# Altium integrated library Analog Devices Data Converters Analog-to-Digital Converters.IntLib: 2400 symbols (part 322 of 338)
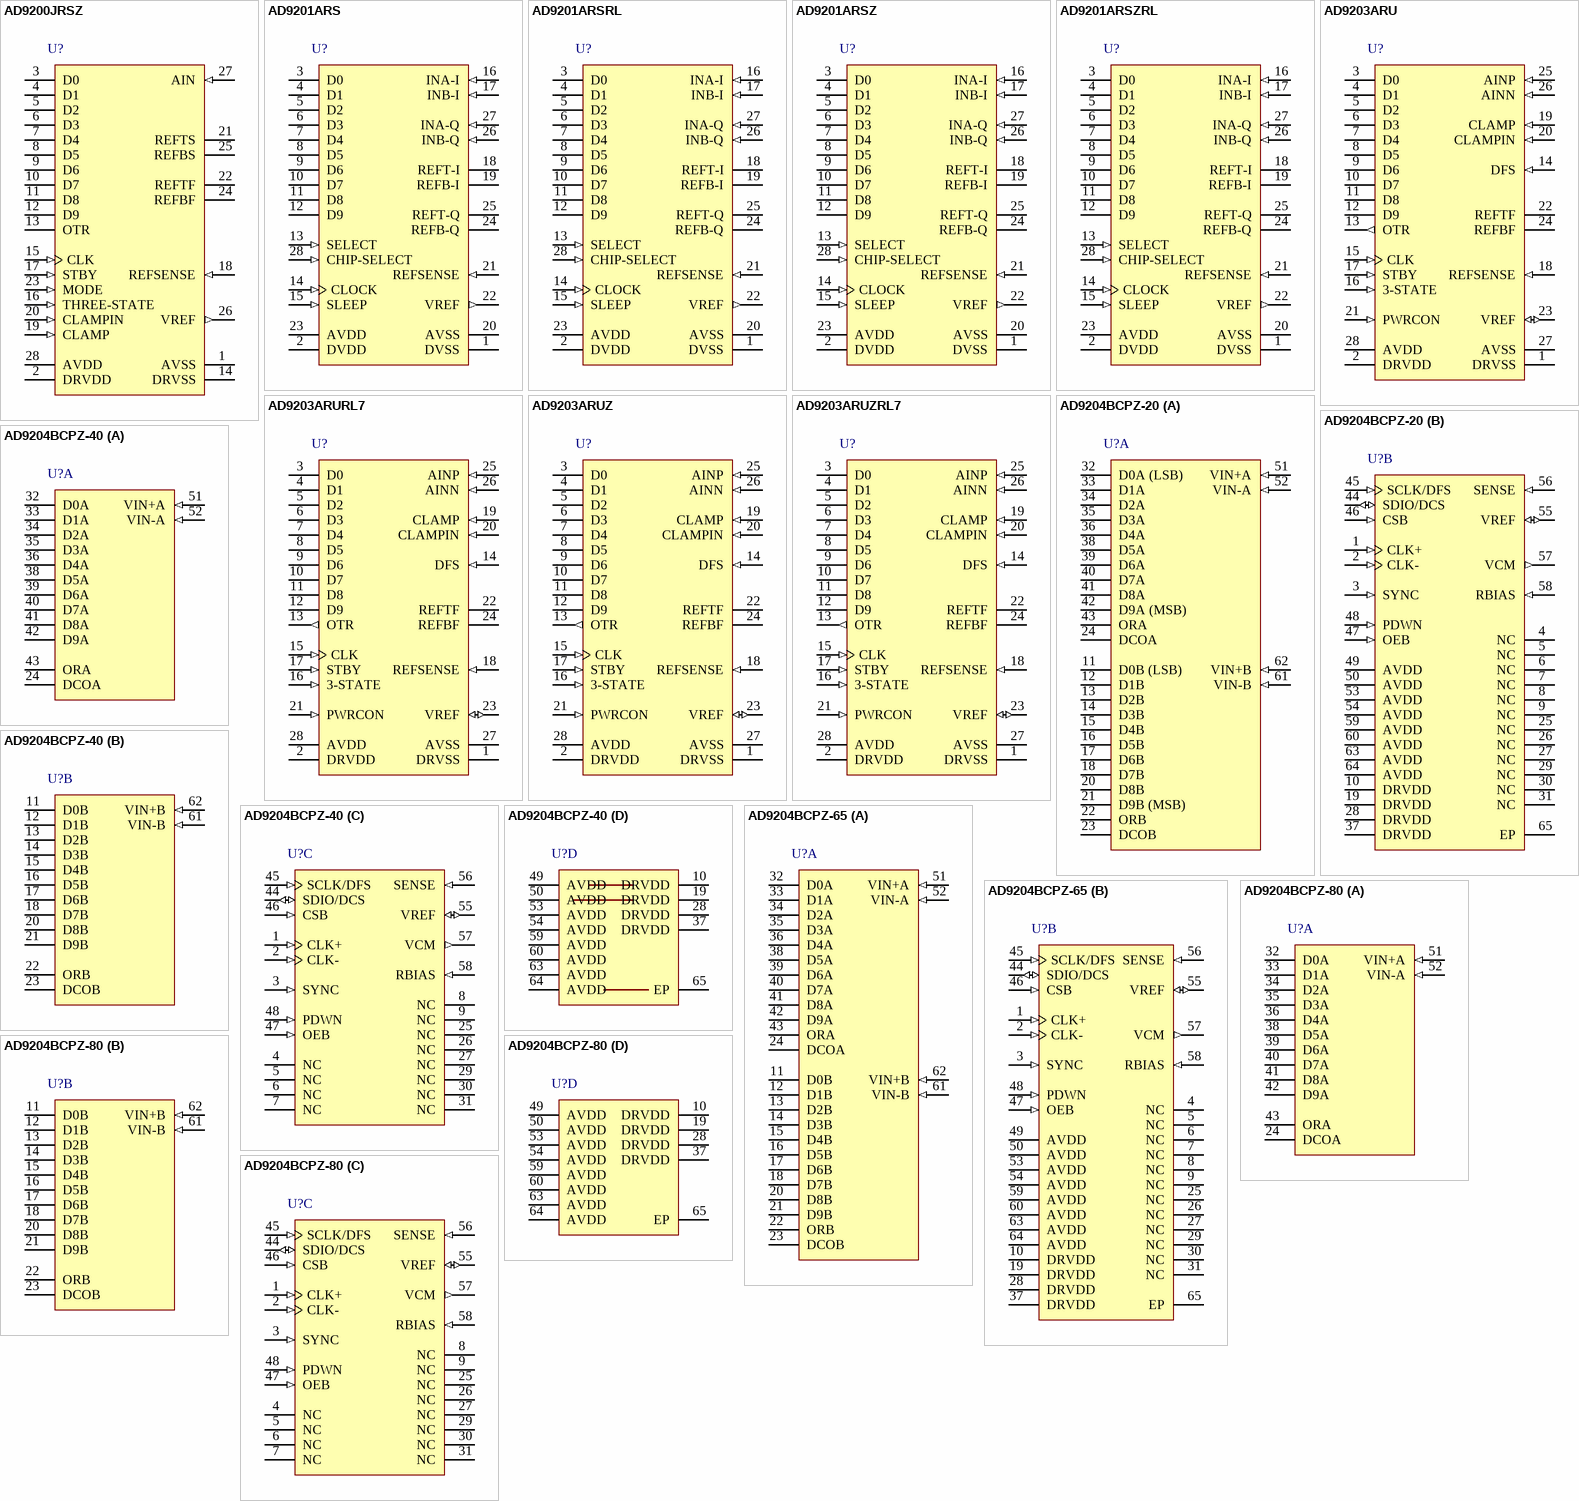
[diagram p430: symbols AD9200JRSZ to AD9204BCPZ-80]

## AD9201ARSRL
designator U?
Dual 10-Bit Analog-to-Digital Converter with Parallel Interface, 20MSPS, -40 to +85 degC, RS-28, Reel; Part Number: AD9201; Manufacturer: Analog Devices; Resolution (Bits): 10; Channels: 2; Throughput Rate (SPS): 20M; Interface: Par; DatasheetVersion: Rev.D; PackageVersion: 060106-A; PackageReference: RS-28; PackageDescription: 28-Lead Shrink Small Outline Package [SSOP]; RoHS: N; Packing: Reel; Mounting Technology: Surface Mount; Code_JEDEC: MO-150-AH; ComponentLink1Description: Manufacturer URL; ComponentLink1URL: http://www.analog.com/en/index.html; ComponentLink2Description: Datasheet; ComponentLink2URL: http://www.analog.com/static/imported-files/data_sheets/AD9201.pdf; ComponentLink3Description: Package Specification; ComponentLink3URL: http://www.analog.com/static/imported-files/packages/32122249223724RS_28.pdf; ComponentLink4Description: Product URL; ComponentLink4URL: http://www.analog.com/en/analog-to-digital-converters/ad-converters/ad9201/products/product.html
footprint RS-28_N (SOP, 28-Leads, Body 10.2x5.3mm, Pitch 0.65mm, IPC Medium Density)
footprint RS-28_L (SOP, 28-Leads, Body 10.2x5.3mm, Pitch 0.65mm, IPC High Density)
footprint RS-28_M (SOP, 28-Leads, Body 10.2x5.3mm, Pitch 0.65mm, IPC Low Density)
pins: 1 DVSS (power) "Digital Ground", 2 DVDD (power) "Digital Supply", 3 D0 (hiz) "Bit 0 (LSB)", 4 D1 (hiz) "Bit 1", 5 D2 (hiz) "Bit 2", 6 D3 (hiz) "Bit 3", 7 D4 (hiz) "Bit 4", 8 D5 (hiz) "Bit 5", 9 D6 (hiz) "Bit 6", 10 D7 (hiz) "Bit 7", 11 D8 (hiz) "Bit 8", 12 D9 (hiz) "Bit 9 (MSB)", 13 SELECT (in) "Hi I Channel Out, Lo Q Channel Out", 14 CLOCK (in) "Clock", 15 SLEEP (in) "Hi Power Down, Lo Normal Operation", 16 INA-I (in) "I Channel, A Input", 17 INB-I (in) "I Channel, B Input", 18 REFT-I "Top Reference Decoupling, I Channel", 19 REFB-I "Bottom Reference Decoupling, I Channel", 20 AVSS (power) "Analog Ground", 21 REFSENSE (in) "Reference Select", 22 VREF (out) "Internal Reference Output", 23 AVDD (power) "Analog Supply", 24 REFB-Q "Bottom Reference Decoupling, Q Channel", 25 REFT-Q "Top Reference Decoupling, Q Channel", 26 INB-Q (in) "Q Channel, B Input", 27 INA-Q (in) "Q Channel, A Input", 28 CHIP-SELECT (in) "Hi-High Impedance, Lo-Normal Operation"

## AD9201ARSZ
designator U?
Dual 10-Bit Analog-to-Digital Converter with Parallel Interface, 20MSPS, -40 to +85 degC, RS-28, Pb-Free, Tube; Part Number: AD9201; Manufacturer: Analog Devices; Resolution (Bits): 10; Channels: 2; Throughput Rate (SPS): 20M; Interface: Par; DatasheetVersion: Rev.D; PackageVersion: 060106-A; PackageReference: RS-28; PackageDescription: 28-Lead Shrink Small Outline Package [SSOP]; RoHS: Y; Packing: Tube; Mounting Technology: Surface Mount; Code_JEDEC: MO-150-AH; ComponentLink1Description: Manufacturer URL; ComponentLink1URL: http://www.analog.com/en/index.html; ComponentLink2Description: Datasheet; ComponentLink2URL: http://www.analog.com/static/imported-files/data_sheets/AD9201.pdf; ComponentLink3Description: Package Specification; ComponentLink3URL: http://www.analog.com/static/imported-files/packages/32122249223724RS_28.pdf; ComponentLink4Description: Product URL; ComponentLink4URL: http://www.analog.com/en/analog-to-digital-converters/ad-converters/ad9201/products/product.html
footprint RS-28_N (SOP, 28-Leads, Body 10.2x5.3mm, Pitch 0.65mm, IPC Medium Density)
footprint RS-28_L (SOP, 28-Leads, Body 10.2x5.3mm, Pitch 0.65mm, IPC High Density)
footprint RS-28_M (SOP, 28-Leads, Body 10.2x5.3mm, Pitch 0.65mm, IPC Low Density)
pins: 1 DVSS (power) "Digital Ground", 2 DVDD (power) "Digital Supply", 3 D0 (hiz) "Bit 0 (LSB)", 4 D1 (hiz) "Bit 1", 5 D2 (hiz) "Bit 2", 6 D3 (hiz) "Bit 3", 7 D4 (hiz) "Bit 4", 8 D5 (hiz) "Bit 5", 9 D6 (hiz) "Bit 6", 10 D7 (hiz) "Bit 7", 11 D8 (hiz) "Bit 8", 12 D9 (hiz) "Bit 9 (MSB)", 13 SELECT (in) "Hi I Channel Out, Lo Q Channel Out", 14 CLOCK (in) "Clock", 15 SLEEP (in) "Hi Power Down, Lo Normal Operation", 16 INA-I (in) "I Channel, A Input", 17 INB-I (in) "I Channel, B Input", 18 REFT-I "Top Reference Decoupling, I Channel", 19 REFB-I "Bottom Reference Decoupling, I Channel", 20 AVSS (power) "Analog Ground", 21 REFSENSE (in) "Reference Select", 22 VREF (out) "Internal Reference Output", 23 AVDD (power) "Analog Supply", 24 REFB-Q "Bottom Reference Decoupling, Q Channel", 25 REFT-Q "Top Reference Decoupling, Q Channel", 26 INB-Q (in) "Q Channel, B Input", 27 INA-Q (in) "Q Channel, A Input", 28 CHIP-SELECT (in) "Hi-High Impedance, Lo-Normal Operation"

## AD9201ARSZRL
designator U?
Dual 10-Bit Analog-to-Digital Converter with Parallel Interface, 20MSPS, -40 to +85 degC, RS-28, Pb-Free, Reel; Part Number: AD9201; Manufacturer: Analog Devices; Resolution (Bits): 10; Channels: 2; Throughput Rate (SPS): 20M; Interface: Par; DatasheetVersion: Rev.D; PackageVersion: 060106-A; PackageReference: RS-28; PackageDescription: 28-Lead Shrink Small Outline Package [SSOP]; RoHS: Y; Packing: Reel; Mounting Technology: Surface Mount; Code_JEDEC: MO-150-AH; ComponentLink1Description: Manufacturer URL; ComponentLink1URL: http://www.analog.com/en/index.html; ComponentLink2Description: Datasheet; ComponentLink2URL: http://www.analog.com/static/imported-files/data_sheets/AD9201.pdf; ComponentLink3Description: Package Specification; ComponentLink3URL: http://www.analog.com/static/imported-files/packages/32122249223724RS_28.pdf; ComponentLink4Description: Product URL; ComponentLink4URL: http://www.analog.com/en/analog-to-digital-converters/ad-converters/ad9201/products/product.html
footprint RS-28_N (SOP, 28-Leads, Body 10.2x5.3mm, Pitch 0.65mm, IPC Medium Density)
footprint RS-28_L (SOP, 28-Leads, Body 10.2x5.3mm, Pitch 0.65mm, IPC High Density)
footprint RS-28_M (SOP, 28-Leads, Body 10.2x5.3mm, Pitch 0.65mm, IPC Low Density)
pins: 1 DVSS (power) "Digital Ground", 2 DVDD (power) "Digital Supply", 3 D0 (hiz) "Bit 0 (LSB)", 4 D1 (hiz) "Bit 1", 5 D2 (hiz) "Bit 2", 6 D3 (hiz) "Bit 3", 7 D4 (hiz) "Bit 4", 8 D5 (hiz) "Bit 5", 9 D6 (hiz) "Bit 6", 10 D7 (hiz) "Bit 7", 11 D8 (hiz) "Bit 8", 12 D9 (hiz) "Bit 9 (MSB)", 13 SELECT (in) "Hi I Channel Out, Lo Q Channel Out", 14 CLOCK (in) "Clock", 15 SLEEP (in) "Hi Power Down, Lo Normal Operation", 16 INA-I (in) "I Channel, A Input", 17 INB-I (in) "I Channel, B Input", 18 REFT-I "Top Reference Decoupling, I Channel", 19 REFB-I "Bottom Reference Decoupling, I Channel", 20 AVSS (power) "Analog Ground", 21 REFSENSE (in) "Reference Select", 22 VREF (out) "Internal Reference Output", 23 AVDD (power) "Analog Supply", 24 REFB-Q "Bottom Reference Decoupling, Q Channel", 25 REFT-Q "Top Reference Decoupling, Q Channel", 26 INB-Q (in) "Q Channel, B Input", 27 INA-Q (in) "Q Channel, A Input", 28 CHIP-SELECT (in) "Hi-High Impedance, Lo-Normal Operation"

## AD9203ARU
designator U?
Single 10-Bit Analog-to-Digital Converter with Parallel Interface, 74 mW, 40MSPS, -40 to +85 degC, RU-28, Tube; Part Number: AD9203; Manufacturer: Analog Devices; Resolution (Bits): 10; Channels: 1; Throughput Rate (SPS): 40M; Interface: Par; DatasheetVersion: Rev.B; PackageVersion: 2005; PackageReference: RU-28; PackageDescription: 28-Lead Thin Shrink Small Outline Package [TSSOP]; RoHS: N; Packing: Tube; Mounting Technology: Surface Mount; Code_JEDEC: MO-153-AE; ComponentLink1Description: Manufacturer URL; ComponentLink1URL: http://www.analog.com/en/index.html; ComponentLink2Description: Datasheet; ComponentLink2URL: http://www.analog.com/static/imported-files/data_sheets/AD9203.pdf; ComponentLink3Description: Package Specification; ComponentLink3URL: http://www.analog.com/static/imported-files/packages/249854663RU_28.pdf; ComponentLink4Description: Product URL; ComponentLink4URL: http://www.analog.com/en/analog-to-digital-converters/ad-converters/ad9203/products/product.html
footprint RU-28_N (TSOP, 28-Leads, Body 9.7x4.4mm, Pitch 0.65mm, IPC Medium Density)
footprint RU-28_L (TSOP, 28-Leads, Body 9.7x4.4mm, Pitch 0.65mm, IPC High Density)
footprint RU-28_M (TSOP, 28-Leads, Body 9.7x4.4mm, Pitch 0.65mm, IPC Low Density)
pins: 1 DRVSS (power) "Digital Ground.", 2 DRVDD (power) "Digital Supply.", 3 D0 (hiz) "Bit 0, Least Significant Bit.", 4 D1 (hiz) "Bit 1.", 5 D2 (hiz) "Bit 2.", 6 D3 (hiz) "Bit 3.", 7 D4 (hiz) "Bit 4.", 8 D5 (hiz) "Bit 5.", 9 D6 (hiz) "Bit 6.", 10 D7 (hiz) "Bit 7.", 11 D8 (hiz) "Bit 8.", 12 D9 (hiz) "Bit 9, Most Significant Bit.", 13 OTR (out) "Out-of-Range Indicator.", 14 DFS (in) "Data Format Select HI: Twos Complement; LO: Straight Binary.", 15 CLK (in) "Clock Input.", 16 3-STATE (in) "HI: High Impedance State Output; LO: Active Digital Output Drives.", 17 STBY (in) "HI: Power-Down Mode; LO: Normal Operation.", 18 REFSENSE (in) "Reference Select.", 19 CLAMP (in) "HI: Enable Clamp; LO: Open Clamp.", 20 CLAMPIN (in) "Clamp Signal Input.", 21 PWRCON (in) "Power Control Input.", 22 REFTF "Top Reference Decoupling.", 23 VREF (io) "Reference In/Out.", 24 REFBF "Bottom Reference Decoupling.", 25 AINP (in) "Noninverting Analog Input.", 26 AINN (in) "Inverting Analog Input.", 27 AVSS (power) "Analog Ground.", 28 AVDD (power) "Analog Supply."

## AD9203ARURL7
designator U?
Single 10-Bit Analog-to-Digital Converter with Parallel Interface, 74 mW, 40MSPS, -40 to +85 degC, RU-28, Reel; Part Number: AD9203; Manufacturer: Analog Devices; Resolution (Bits): 10; Channels: 1; Throughput Rate (SPS): 40M; Interface: Par; DatasheetVersion: Rev.B; PackageVersion: 2005; PackageReference: RU-28; PackageDescription: 28-Lead Thin Shrink Small Outline Package [TSSOP]; RoHS: N; Packing: Reel; Mounting Technology: Surface Mount; Code_JEDEC: MO-153-AE; ComponentLink1Description: Manufacturer URL; ComponentLink1URL: http://www.analog.com/en/index.html; ComponentLink2Description: Datasheet; ComponentLink2URL: http://www.analog.com/static/imported-files/data_sheets/AD9203.pdf; ComponentLink3Description: Package Specification; ComponentLink3URL: http://www.analog.com/static/imported-files/packages/249854663RU_28.pdf; ComponentLink4Description: Product URL; ComponentLink4URL: http://www.analog.com/en/analog-to-digital-converters/ad-converters/ad9203/products/product.html
footprint RU-28_N (TSOP, 28-Leads, Body 9.7x4.4mm, Pitch 0.65mm, IPC Medium Density)
footprint RU-28_L (TSOP, 28-Leads, Body 9.7x4.4mm, Pitch 0.65mm, IPC High Density)
footprint RU-28_M (TSOP, 28-Leads, Body 9.7x4.4mm, Pitch 0.65mm, IPC Low Density)
pins: 1 DRVSS (power) "Digital Ground.", 2 DRVDD (power) "Digital Supply.", 3 D0 (hiz) "Bit 0, Least Significant Bit.", 4 D1 (hiz) "Bit 1.", 5 D2 (hiz) "Bit 2.", 6 D3 (hiz) "Bit 3.", 7 D4 (hiz) "Bit 4.", 8 D5 (hiz) "Bit 5.", 9 D6 (hiz) "Bit 6.", 10 D7 (hiz) "Bit 7.", 11 D8 (hiz) "Bit 8.", 12 D9 (hiz) "Bit 9, Most Significant Bit.", 13 OTR (out) "Out-of-Range Indicator.", 14 DFS (in) "Data Format Select HI: Twos Complement; LO: Straight Binary.", 15 CLK (in) "Clock Input.", 16 3-STATE (in) "HI: High Impedance State Output; LO: Active Digital Output Drives.", 17 STBY (in) "HI: Power-Down Mode; LO: Normal Operation.", 18 REFSENSE (in) "Reference Select.", 19 CLAMP (in) "HI: Enable Clamp; LO: Open Clamp.", 20 CLAMPIN (in) "Clamp Signal Input.", 21 PWRCON (in) "Power Control Input.", 22 REFTF "Top Reference Decoupling.", 23 VREF (io) "Reference In/Out.", 24 REFBF "Bottom Reference Decoupling.", 25 AINP (in) "Noninverting Analog Input.", 26 AINN (in) "Inverting Analog Input.", 27 AVSS (power) "Analog Ground.", 28 AVDD (power) "Analog Supply."

## AD9203ARUZ
designator U?
Single 10-Bit Analog-to-Digital Converter with Parallel Interface, 74 mW, 40MSPS, -40 to +85 degC, RU-28, Pb-Free,Tube; Part Number: AD9203; Manufacturer: Analog Devices; Resolution (Bits): 10; Channels: 1; Throughput Rate (SPS): 40M; Interface: Par; DatasheetVersion: Rev.B; PackageVersion: 2005; PackageReference: RU-28; PackageDescription: 28-Lead Thin Shrink Small Outline Package [TSSOP]; RoHS: Y; Packing: Tube; Mounting Technology: Surface Mount; Code_JEDEC: MO-153-AE; ComponentLink1Description: Manufacturer URL; ComponentLink1URL: http://www.analog.com/en/index.html; ComponentLink2Description: Datasheet; ComponentLink2URL: http://www.analog.com/static/imported-files/data_sheets/AD9203.pdf; ComponentLink3Description: Package Specification; ComponentLink3URL: http://www.analog.com/static/imported-files/packages/249854663RU_28.pdf; ComponentLink4Description: Product URL; ComponentLink4URL: http://www.analog.com/en/analog-to-digital-converters/ad-converters/ad9203/products/product.html
footprint RU-28_N (TSOP, 28-Leads, Body 9.7x4.4mm, Pitch 0.65mm, IPC Medium Density)
footprint RU-28_L (TSOP, 28-Leads, Body 9.7x4.4mm, Pitch 0.65mm, IPC High Density)
footprint RU-28_M (TSOP, 28-Leads, Body 9.7x4.4mm, Pitch 0.65mm, IPC Low Density)
pins: 1 DRVSS (power) "Digital Ground.", 2 DRVDD (power) "Digital Supply.", 3 D0 (hiz) "Bit 0, Least Significant Bit.", 4 D1 (hiz) "Bit 1.", 5 D2 (hiz) "Bit 2.", 6 D3 (hiz) "Bit 3.", 7 D4 (hiz) "Bit 4.", 8 D5 (hiz) "Bit 5.", 9 D6 (hiz) "Bit 6.", 10 D7 (hiz) "Bit 7.", 11 D8 (hiz) "Bit 8.", 12 D9 (hiz) "Bit 9, Most Significant Bit.", 13 OTR (out) "Out-of-Range Indicator.", 14 DFS (in) "Data Format Select HI: Twos Complement; LO: Straight Binary.", 15 CLK (in) "Clock Input.", 16 3-STATE (in) "HI: High Impedance State Output; LO: Active Digital Output Drives.", 17 STBY (in) "HI: Power-Down Mode; LO: Normal Operation.", 18 REFSENSE (in) "Reference Select.", 19 CLAMP (in) "HI: Enable Clamp; LO: Open Clamp.", 20 CLAMPIN (in) "Clamp Signal Input.", 21 PWRCON (in) "Power Control Input.", 22 REFTF "Top Reference Decoupling.", 23 VREF (io) "Reference In/Out.", 24 REFBF "Bottom Reference Decoupling.", 25 AINP (in) "Noninverting Analog Input.", 26 AINN (in) "Inverting Analog Input.", 27 AVSS (power) "Analog Ground.", 28 AVDD (power) "Analog Supply."

## AD9203ARUZRL7
designator U?
Single 10-Bit Analog-to-Digital Converter with Parallel Interface, 74 mW, 40MSPS, 0 to +70 degC, RU-28, Pb-Free, Reel; Part Number: AD9203; Manufacturer: Analog Devices; Resolution (Bits): 10; Channels: 1; Throughput Rate (SPS): 40M; Interface: Par; DatasheetVersion: Rev.B; PackageVersion: 2005; PackageReference: RU-28; PackageDescription: 28-Lead Thin Shrink Small Outline Package [TSSOP]; RoHS: Y; Packing: Reel; Mounting Technology: Surface Mount; Code_JEDEC: MO-153-AE; ComponentLink1Description: Manufacturer URL; ComponentLink1URL: http://www.analog.com/en/index.html; ComponentLink2Description: Datasheet; ComponentLink2URL: http://www.analog.com/static/imported-files/data_sheets/AD9203.pdf; ComponentLink3Description: Package Specification; ComponentLink3URL: http://www.analog.com/static/imported-files/packages/249854663RU_28.pdf; ComponentLink4Description: Product URL; ComponentLink4URL: http://www.analog.com/en/analog-to-digital-converters/ad-converters/ad9203/products/product.html
footprint RU-28_N (TSOP, 28-Leads, Body 9.7x4.4mm, Pitch 0.65mm, IPC Medium Density)
footprint RU-28_L (TSOP, 28-Leads, Body 9.7x4.4mm, Pitch 0.65mm, IPC High Density)
footprint RU-28_M (TSOP, 28-Leads, Body 9.7x4.4mm, Pitch 0.65mm, IPC Low Density)
pins: 1 DRVSS (power) "Digital Ground.", 2 DRVDD (power) "Digital Supply.", 3 D0 (hiz) "Bit 0, Least Significant Bit.", 4 D1 (hiz) "Bit 1.", 5 D2 (hiz) "Bit 2.", 6 D3 (hiz) "Bit 3.", 7 D4 (hiz) "Bit 4.", 8 D5 (hiz) "Bit 5.", 9 D6 (hiz) "Bit 6.", 10 D7 (hiz) "Bit 7.", 11 D8 (hiz) "Bit 8.", 12 D9 (hiz) "Bit 9, Most Significant Bit.", 13 OTR (out) "Out-of-Range Indicator.", 14 DFS (in) "Data Format Select HI: Twos Complement; LO: Straight Binary.", 15 CLK (in) "Clock Input.", 16 3-STATE (in) "HI: High Impedance State Output; LO: Active Digital Output Drives.", 17 STBY (in) "HI: Power-Down Mode; LO: Normal Operation.", 18 REFSENSE (in) "Reference Select.", 19 CLAMP (in) "HI: Enable Clamp; LO: Open Clamp.", 20 CLAMPIN (in) "Clamp Signal Input.", 21 PWRCON (in) "Power Control Input.", 22 REFTF "Top Reference Decoupling.", 23 VREF (io) "Reference In/Out.", 24 REFBF "Bottom Reference Decoupling.", 25 AINP (in) "Noninverting Analog Input.", 26 AINN (in) "Inverting Analog Input.", 27 AVSS (power) "Analog Ground.", 28 AVDD (power) "Analog Supply."

## AD9204BCPZ-20
designator U?
Dual 10-Bit Analog-to-Digital Converter with Parallel Interface, 1.8 V, 20MSPS, -40 to +85 degC, CP-64-4, Pb-Free, Tray; Part Number: AD9204-20; Manufacturer: Analog Devices; Resolution (Bits): 10; Channels: 2; Throughput Rate (SPS): 20M; Interface: Par; DatasheetVersion: Rev.0; PackageVersion: 051007-C; PackageReference: CP-64-4; PackageDescription: 64-Lead Lead Frame Chip Scale Package [LFCSP_VQ] 9 x 9 mm Body, Very Thin Quad; RoHS: Y; Packing: Tray; Mounting Technology: Surface Mount; Code_JEDEC: MO-220-VMMD-4; ComponentLink1Description: Manufacturer URL; ComponentLink1URL: http://www.analog.com/en/index.html; ComponentLink2Description: Datasheet; ComponentLink2URL: http://www.analog.com/static/imported-files/data_sheets/AD9204.pdf; ComponentLink3Description: Package Specification; ComponentLink3URL: http://www.analog.com/static/imported-files/packages/PKG_PDF/LFCSP(CP)/CP_64_4.pdf; ComponentLink4Description: Product URL; ComponentLink4URL: http://www.analog.com/en/analog-to-digital-converters/ad-converters/ad9204/products/product.html
footprint CP-64-4_N (QFN, 64-Leads, Body 9x9mm, Pitch 0.5mm, Thermal Pad 6.2x6.2mm, IPC Medium Density)
footprint CP-64-4_L (QFN, 64-Leads, Body 9x9mm, Pitch 0.5mm, Thermal Pad 6.2x6.2mm, IPC High Density)
footprint CP-64-4_M (QFN, 64-Leads, Body 9x9mm, Pitch 0.5mm, Thermal Pad 6.2x6.2mm, IPC Low Density)
part A pins: 11 D0B (LSB) (hiz) "Channel B Digital Outputs.D9B = MSB.", 12 D1B (hiz) "Channel B Digital Outputs.D9B = MSB.", 13 D2B (hiz) "Channel B Digital Outputs.D9B = MSB.", 14 D3B (hiz) "Channel B Digital Outputs.D9B = MSB.", 15 D4B (hiz) "Channel B Digital Outputs.D9B = MSB.", 16 D5B (hiz) "Channel B Digital Outputs.D9B = MSB.", 17 D6B (hiz) "Channel B Digital Outputs.D9B = MSB.", 18 D7B (hiz) "Channel B Digital Outputs.D9B = MSB.", 20 D8B (hiz) "Channel B Digital Outputs.D9B = MSB.", 21 D9B (MSB) (hiz) "Channel B Digital Outputs.D9B = MSB.", 22 ORB (hiz) "Channel B Out-of-Range Digital Output.", 23 DCOB (hiz) "Channel B Data Clock Digital Output.", 24 DCOA (hiz) "Channel A Data Clock Digital Output.", 32 D0A (LSB) (hiz) "Channel A Digital Outputs.D9A = MSB.", 33 D1A (hiz) "Channel A Digital Outputs.D9A = MSB.", 34 D2A (hiz) "Channel A Digital Outputs.D9A = MSB.", 35 D3A (hiz) "Channel A Digital Outputs.D9A = MSB.", 36 D4A (hiz) "Channel A Digital Outputs.D9A = MSB.", 38 D5A (hiz) "Channel A Digital Outputs.D9A = MSB.", 39 D6A (hiz) "Channel A Digital Outputs.D9A = MSB.", 40 D7A (hiz) "Channel A Digital Outputs.D9A = MSB.", 41 D8A (hiz) "Channel A Digital Outputs.D9A = MSB.", 42 D9A (MSB) (hiz) "Channel A Digital Outputs.D9A = MSB.", 43 ORA (hiz) "Channel A Out-of-Range Digital Output.", 51 VIN+A (in) "Channel A Analog Inputs.", 52 VIN-A (in) "Channel A Analog Inputs.", 61 VIN-B (in) "Channel B Analog Inputs.", 62 VIN+B (in) "Channel B Analog Inputs."
part B pins: 1 CLK+ (in) "Differential Encode Clock. PECL, LVDS, or 1.8 V CMOS inputs.", 2 CLK- (in) "Differential Encode Clock. PECL, LVDS, or 1.8 V CMOS inputs.", 3 SYNC (in) "Digital Input. SYNC input to clock divider. 30 k ohm internal pull-down", 4 NC "Do Not Connect.", 5 NC "Do Not Connect.", 6 NC "Do Not Connect.", 7 NC "Do Not Connect.", 8 NC "Do Not Connect.", 9 NC "Do Not Connect.", 10 DRVDD (power) "Digital Output Driver Supply (1.8 V to 3.3 V).", 19 DRVDD (power) "Digital Output Driver Supply (1.8 V to 3.3 V).", 25 NC "Do Not Connect.", 26 NC "Do Not Connect.", 27 NC "Do Not Connect.", 28 DRVDD (power) "Digital Output Driver Supply (1.8 V to 3.3 V).", 29 NC "Do Not Connect.", 30 NC "Do Not Connect.", 31 NC "Do Not Connect.", 37 DRVDD (power) "Digital Output Driver Supply (1.8 V to 3.3 V).", 44 SDIO/DCS (io) "SPI Data Input/Output (SDIO). Bidirectional SPI Data I/O in SPI mode. 30 k ohm internal pulldown in SPI mode.  Duty Cycle Stabilizer (DCS). Static enable input for duty cycle stabilizer in non-SPI mode. 30 k ohm  internal (See Datasheet)", 45 SCLK/DFS (in) "SPI Clock (SCLK) Input in SPI mode. 30 k ohm internal pull-down.Data Format Select (DFS). Static control of data output format in non-SPI mode. 30 kO internal pull-down.DFS high = twos complement output.  DFS low = offset (See Datasheet)", 46 CSB (in) "SPI Chip Select. Active low enable; 30 k ohm internal pull-up", 47 OEB (in) "Digital Input. Enable Channel A and Channel B digital outputs if low, three-state outputs if high. 30 kohm internal pull-down.", 48 PDWN (in) "Digital Input. 30 kohm internal pull-down.PDWN high = power-down device.PDWN low = run device, normal operation.", 49 AVDD (power) "1.8 V Analog Supply Pins", 50 AVDD (power) "1.8 V Analog Supply Pins", 53 AVDD (power) "1.8 V Analog Supply Pins", 54 AVDD (power) "1.8 V Analog Supply Pins", 55 VREF (io) "Voltage Reference Input/Output", 56 SENSE (in) "Reference Mode Selection", 57 VCM (out) "Analog output voltage at midsupply to set common mode of the analog inputs.", 58 RBIAS (in) "Sets Analog Current Bias. Connect to 10 kohm (1% tolerance) resistor to ground.", 59 AVDD (power) "1.8 V Analog Supply Pins", 60 AVDD (power) "1.8 V Analog Supply Pins", 63 AVDD (power) "1.8 V Analog Supply Pins", 64 AVDD (power) "1.8 V Analog Supply Pins", 65 EP (power) "Exposed paddle is the only ground connection for the chip. Must be connected to PCB AGND."